# EAGLE library part CON_MEGAFIT_2X3_MOLEX_0768290006 (library WCSMain)
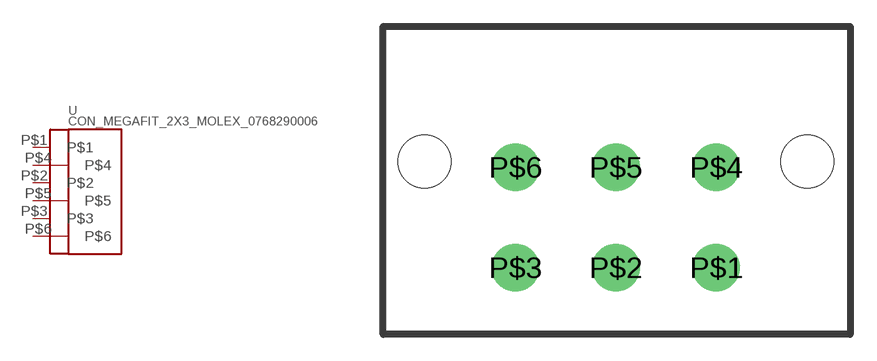
[diagram p23: symbol with the pads of CON_MEGAFIT6_MOLEX_0768290006; footprint CON_MEGAFIT6_MOLEX_0768290006]

Designator prefix -

## CON_MEGAFIT_2X3_MOLEX_0768290006  [CON_MEGAFIT6_MOLEX_0768290006]
P$1  P$1  pas
P$2  P$2  pas
P$3  P$3  pas
P$4  P$4  pas
P$5  P$5  pas
P$6  P$6  pas

## Footprint CON_MEGAFIT6_MOLEX_0768290006 (pad centres in mm)
drill 1.8: P$1 5.7,-5.7; P$2 0,-5.7; P$3 -5.7,-5.7; P$4 5.7,0; P$5 0,0; P$6 -5.7,0
hole 3 at -10.87,0.33
hole 3 at 10.87,0.33